# Altium footprint library USB_B.PcbLib: 1 footprints
Each footprint in its own frame and in the unit in brackets; x right, y up, seen from the top. Pads: shape width x height; smd on the part's side, far side on the other; paste and mask are expansions set on the pad; w line width, h text height; cw(c..) or ccw(c..) is an arc to the next point about the centre after c.
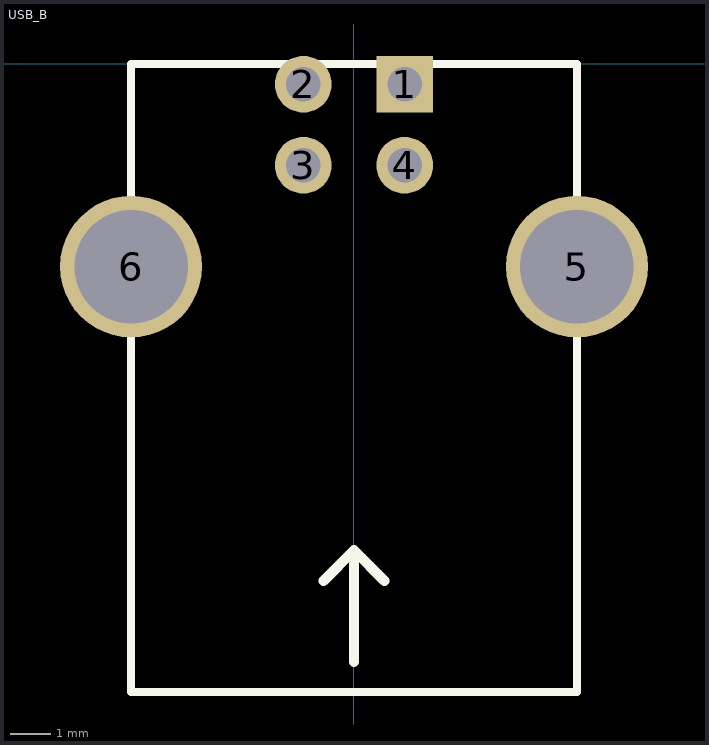
[diagram p0: the footprint, top view; thin cyan lines are the x and y axes]

## USB_B [mm]
height 10
pads (6):
  rect 1.4x1.4 hole 0.85: 1(1.25,-0.5)
  round 1.4 hole 0.85: 2(-1.25,-0.5) 3(-1.25,-2.5) 4(1.25,-2.5)
  round 3.5 hole 2.8: 5(5.5,-5) 6(-5.5,-5)
Top Overlay:
  lines w0.2: -5.5,-15.5 -5.5,0 5.5,0 5.5,-15.5 -5.5,-15.5
  lines w0.254: -0.75,-12.75 0,-12 ; 0,-14.75 0,-12 ; 0.75,-12.75 0,-12